# Altium footprint library GS AQ.PcbLib: 29 footprints (part 1 of 2)
Each footprint in its own frame and in the unit in brackets; x right, y up, seen from the top. Pads: shape width x height; smd on the part's side, far side on the other; paste and mask are expansions set on the pad; w line width, h text height; cw(c..) or ccw(c..) is an arc to the next point about the centre after c.
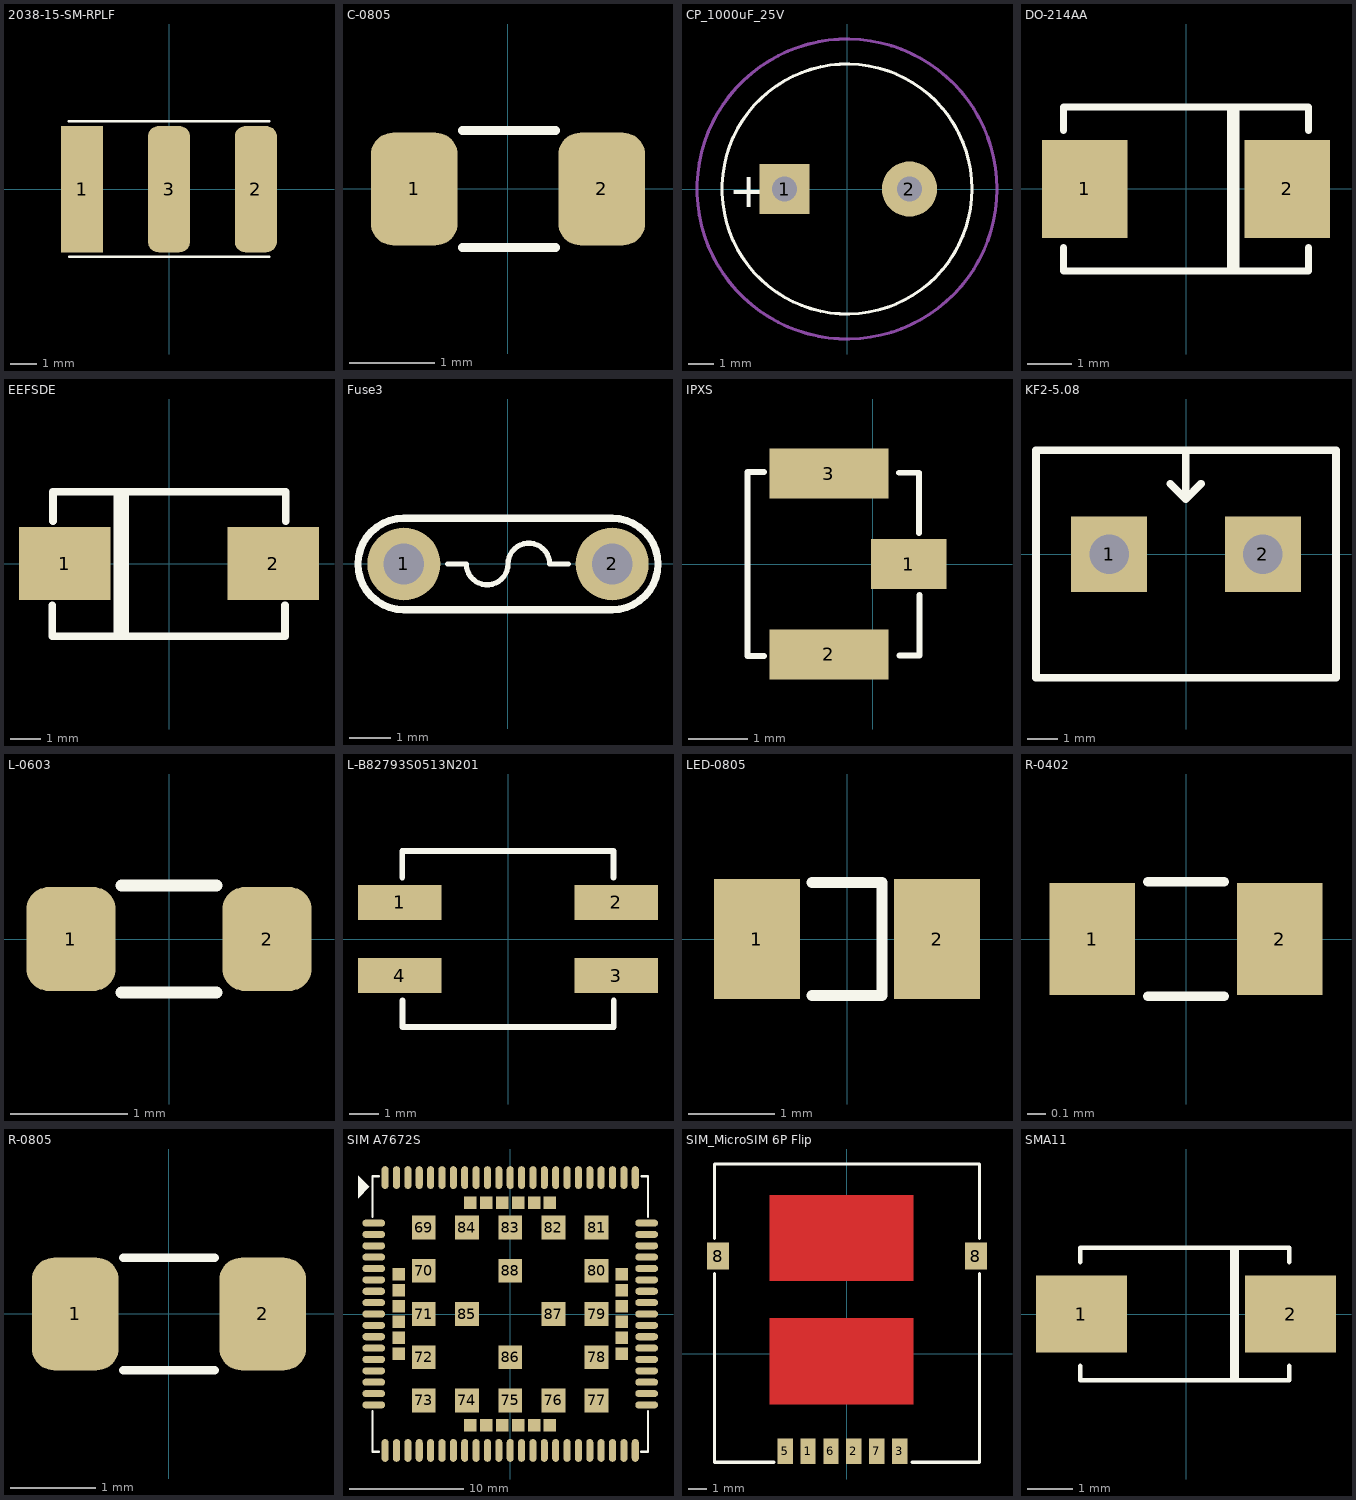
[diagram p0: the footprints below, top view; thin cyan lines are the x and y axes]

## 2038-15-SM-RPLF [mm] "Compoment SMD 80x50mil"
height 1.27
pads (3):
  rect 1.6x4.8 smd: 1(-3.3,0)
  rrect50% 1.6x4.8 smd: 2(3.3,0) 3(0,0)
Top Overlay:
  lines w0.102: -3.8,2.578 3.8,2.578 ; -3.79,-2.565 3.81,-2.565
3D body: height 5, standoff 0, extent -3.725,-2.489 3.775,2.511

## C-0805 [mil] "Compoment SMD 80x50mil"
height 50
pads (2):
  rrect50% 40x52 smd: 1(-43.31,0) 2(43.31,0)
Top Overlay:
  lines w4: -21,-27 22,-27 ; -21,27 22,27
3D body: height 24.02, standoff -0.39, extent -39.76,-24.99 39.76,25

## CP_1000uF_25V [mm]
pads (2):
  rect 2x2 hole 1: 1(-2.5,0)
  round 2.2 hole 1: 2(2.5,0)
Top Overlay:
  circle w0.127: c0,0 r5
  text "+" at -4.724,-0.737 h1.4
Mechanical 15:
  circle w0.127: c0,0 r6
3D body: height 20.04, standoff -1.46, extent -4.998,-4.997 4.998,4.999

## DO-214AA [mil] "SMAJ5.0A/CA,SMAJ24CA..."
height 501.97
pads (2):
  rect 76x87 smd: 1(-90,0) 2(90,0)
Top Overlay:
  lines w6: -109,-52.01 -109,-73.01 109,-73.01 109,-52.01 ; -109,52 -109,73 109,73 109,52
  lines w11: 42,-70 42,70
3D body: height 89.57, standoff -1.18, extent -106.3,-70.87 106.29,70.86

## EEFSDE [mm]
height 12.75
pads (2):
  rect 3x2.4 smd: 1(-3.429,0) 2(3.429,0)
Top Overlay:
  lines w0.254: -3.835,-1.372 -3.835,-2.388 3.81,-2.388 3.81,-1.372 ; -3.81,1.397 -3.81,2.362 3.835,2.362 3.835,1.397
  lines w0.508: -1.575,-2.235 -1.575,2.184
3D body: height 4.21, standoff 4.2, extent -3.429,-2.15 -2.794,2.15
3D body: height 0.1, standoff 0, extent 1.778,-1.27 3.81,1.27
3D body: height 2.1, standoff 0, extent 3.556,-1.27 3.81,1.27
3D body: height 2.1, standoff 0, extent -3.81,-1.27 -3.556,1.27
3D body: height 0.1, standoff 0, extent -3.81,-1.27 -1.778,1.27
3D body: height 0.1, standoff 0, extent -1.778,-2.15 1.778,2.15
3D body: height 4.2, standoff 0.1, extent -3.65,-2.15 3.65,2.15

## Fuse3 [mil]
height 200
pads (2):
  round 70 hole 39: 1(-100,0) 2(100,0)
Top Overlay:
  lines w5: -58,0 -40,0 ccw(c-20,0) 0,0 cw(c20,0) 40,0 58,0
  lines w7: -100,-44 cw(c-100,0) -100,44 100,44 cw(c100,0) 100,-44 -100,-44
3D body: height 275.59, standoff -54.72, extent -109.84,-43.3 109.84,43.7

## IPXS [mil] "SOT 23 _ 1-3-2"
height 50
pads (3):
  rect 50x33 smd: 1(24,0)
  rect 79x33 smd: 2(-29,-60) 3(-29,60)
Top Overlay:
  lines w3.94: -83,60 -83,-61 -72,-61 ; -83,61 -72,61 ; 17.59,60.55 30.62,60.55 30.62,20.51 ; 17.92,-60.56 30.95,-60.56 30.95,-20.52
3D body: height 50, standoff -0.39, extent -80.18,-59.05 32.02,59.06

## KF2-5.08 [mm]
pads (2):
  rect 2.5x2.5 hole 1.3: 1(-2.54,0) 2(2.54,0)
Top Overlay:
  lines w0.254: -0.521,2.324 -0.013,1.816 ; -0.013,3.378 -0.013,1.816 ; 0.495,2.324 -0.013,1.816 ; -4.953,-4.077 4.953,-4.077 4.953,3.429 -4.953,3.429 -4.953,-4.077
3D body: height 10, standoff -4, extent -5,-4.071 5,3.429

## L-0603 [mil] "Chip Capacitor; Body 1.6 x 0.8 mm (LxW typ)"
height 34.25
pads (2):
  rrect50% 30x35 smd: 1(-33,0) 2(33,0)
Top Overlay:
  lines w4: -16,-18 16,-18 ; -16,18 16,18
3D body: height 30.75, standoff -0.75, extent -31.5,-15.74 31.5,15.75

## L-B82793S0513N201 [mm] "Loc 220"
height 12.75
pads (4):
  rect 2.85x1.2 smd: 1(-3.7,1.25) 2(3.7,1.25) 3(3.7,-1.25) 4(-3.7,-1.25)
Top Overlay:
  lines w0.203: -3.614,2.1 -3.614,3 ; -3.6,-2.1 -3.6,-3 3.6,-3 ; -3.6,3 3.6,3 3.6,2.1 ; 3.614,-3 3.614,-2.1
3D body: height 4.61, standoff 0, extent -4.568,-2.95 4.568,2.95

## LED-0805 [mm]
height 12.75
pads (2):
  rect 1x1.397 smd: 1(-1.05,0) 2(1.05,0)
Top Overlay:
  lines w0.127: -0.406,-0.66 0.406,-0.66 0.406,0.66 -0.406,0.66
3D body: height 0.9, standoff -0.01, extent -1.05,-0.675 1.05,0.675

## R-0402 [mm]
height 12.75
pads (2):
  rect 0.457x0.6 smd: 1(-0.5,0) 2(0.5,0)
Top Overlay:
  lines w0.05: -0.203,-0.305 0.203,-0.305 ; -0.203,0.305 0.203,0.305
3D body: height 0.35, standoff -0.01, extent -0.5,-0.25 0.5,0.25

## R-0805 [mil] "Compoment SMD 80x50mil"
height 50
pads (2):
  rrect50% 40x52 smd: 1(-43.31,0) 2(43.31,0)
Top Overlay:
  lines w4: -21,-26 21,-26 ; -21,26 21,26
3D body: height 21.65, standoff 0, extent -39.37,-24.6 39.37,24.61

## SIM A7672S [mm]
height 12.75
pads (124):
  oval 2x0.62 smd: 1(-12,8) 2(-12,7) 3(-12,6) 4(-12,5) 5(-12,4) 6(-12,3) 7(-12,2) 8(-12,1) 9(-12,0) 10(-12,-1) 11(-12,-2) 12(-12,-3) 13(-12,-4) 14(-12,-5) 15(-12,-6) 16(-12,-7) 17(-12,-8) 35(12,-8) 36(12,-7) 37(12,-6) 38(12,-5) 39(12,-4) 40(12,-3) 41(12,-2) 42(12,-1) 43(12,0) 44(12,1) 45(12,2) 46(12,3) 47(12,4) 48(12,5) 49(12,6) 50(12,7) 51(12,8)
  oval 0.62x2 smd: 18(-8,-12) 19(-7,-12) 20(-6,-12) 21(-5,-12) 22(-4,-12) 23(-3,-12) 24(-2,-12) 25(-1,-12) 26(0,-12) 27(1,-12) 28(2,-12) 29(3,-12) 30(4,-12) 31(5,-12) 32(6,-12) 33(7,-12) 34(8,-12) 52(8,12) 53(7,12) 54(6,12) 55(5,12) 56(4,12) 57(3,12) 58(2,12) 59(1,12) 60(0,12) 61(-1,12) 62(-2,12) 63(-3,12) 64(-4,12) 65(-5,12) 66(-6,12) 67(-7,12) 68(-8,12) 89(-11,-12) 90(-10,-12) 91(-9,-12) 92(9,-12) 93(10,-12) 94(11,-12) 95(11,12) 96(10,12) 97(9,12) 98(-9,12) 99(-10,12) 100(-11,12)
  rect 2.1x2.1 smd: 69(-7.6,7.6) 70(-7.6,3.8) 71(-7.6,0) 72(-7.6,-3.8) 73(-7.6,-7.6) 74(-3.8,-7.6) 75(0,-7.6) 76(3.8,-7.6) 77(7.6,-7.6) 78(7.6,-3.8) 79(7.6,0) 80(7.6,3.8) 81(7.6,7.6) 82(3.8,7.6) 83(0,7.6) 84(-3.8,7.6) 85(-3.8,0) 86(0,-3.8) 87(3.8,0) 88(0,3.8)
  rect 1.1x1.1 smd: 101(-9.8,3.5) 102(-9.8,2.1) 103(-9.8,0.7) 104(-9.8,-0.7) 105(-9.8,-2.1) 106(-9.8,-3.5) 107(-3.5,-9.8) 108(-2.1,-9.8) 109(-0.7,-9.8) 110(0.7,-9.8) 111(2.1,-9.8) 112(3.5,-9.8) 113(9.8,-3.5) 114(9.8,-2.1) 115(9.8,-0.7) 116(9.8,0.7) 117(9.8,2.1) 118(9.8,3.5) 119(3.5,9.8) 120(2.1,9.8) 121(0.7,9.8) 122(-0.7,9.8) 123(-2.1,9.8) 124(-3.5,9.8)
Top Overlay:
  region: -13.386,12.16 -12.402,11.176 -13.386,10.192
  lines w0.203: -12.116,-8.56 -12.116,-12.116 -11.557,-12.116 ; -12.116,8.534 -12.116,12.116 -11.532,12.116 ; 11.532,-12.116 12.116,-12.116 12.116,-8.56 ; 11.557,12.116 12.116,12.116 12.116,8.56
3D body: height 2.6, standoff 0, extent -12,-12 12,12

## SIM_MicroSIM 6P Flip [mm]
height 12.75
pads (8):
  rect 0.85x1.4 smd: 1(-2.16,-5.415) 2(0.38,-5.415) 3(2.92,-5.415) 5(-3.43,-5.415) 6(-0.89,-5.415) 7(1.65,-5.415)
  rect 1.2x1.5 smd: 8(-7.15,5.415) 8(7.15,5.415)
Top Layer:
  pour cut-out: 3.683,8.788 -4.293,8.788 -4.293,4.039 3.683,4.039
  pour cut-out: 3.683,-2.79 -4.293,-2.79 -4.293,1.96 3.683,1.96
Top Overlay:
  lines w0.178: -7.35,6.4 -7.35,10.516 7.35,10.516 7.35,6.4 ; -7.35,4.445 -7.35,-6.02 -4.064,-6.02 ; 3.607,-6.02 7.35,-6.02 7.35,4.445
3D body: height 1.7, standoff -0.05, extent -7.605,-5.889 7.595,10.411

## SMA11 [mm] "SMAJ5.0A/CA,SMAJ24CA..."
height 12.75
pads (2):
  rect 2x1.7 smd: 1(-2.3,0) 2(2.3,0)
Top Overlay:
  lines w0.102: -2.325,-1.143 -2.325,-1.46 2.275,-1.46 2.275,-1.143 ; -2.325,1.143 -2.325,1.46 2.275,1.46 2.275,1.143
  lines w0.203: 1.067,-1.397 1.067,1.397
3D body: height 2.62, standoff 0.2, extent -2.3,-1.46 2.3,1.46
3D body: height 1.31, standoff 0, extent -2.54,-0.889 -1.27,0.889
3D body: height 1.31, standoff 0, extent 1.27,-0.889 2.54,0.889